# Altium footprint library IND-8075.PcbLib: 1 footprints
Each footprint in its own frame and in the unit in brackets; x right, y up, seen from the top. Pads: shape width x height; smd on the part's side, far side on the other; paste and mask are expansions set on the pad; w line width, h text height; cw(c..) or ccw(c..) is an arc to the next point about the centre after c.
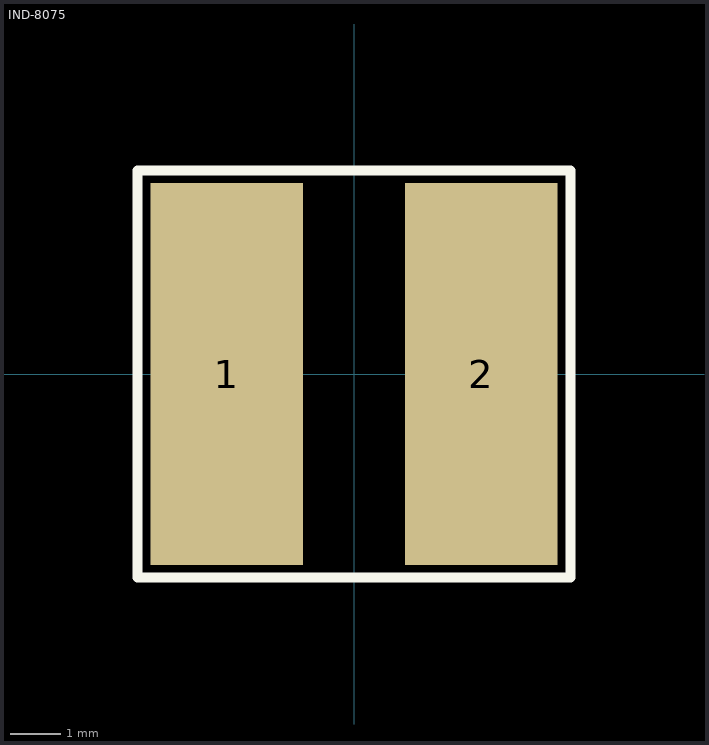
[diagram p0: the footprint, top view; thin cyan lines are the x and y axes]

## IND-8075 [mm]
height 0.55
pads (2):
  rect 3x7.5 smd: 1(-2.5,0) 2(2.5,0)
Top Overlay:
  lines w0.2: -4.25,-4 4.25,-4 4.25,4 -4.25,4 -4.25,-4
Top Assembly:
  lines w0.1: -4.25,-4 4.25,-4 4.25,4 -4.25,4 -4.25,-4
  text "'.Designator'" at -0.625,-0.35 h0.7
3D body "69869.stp": height 4.5, standoff 0, extent -3,-3 3,3